# Altium schematic symbol library WE-FI.SchLib: 1 symbol
Pins are listed as number, name and electrical type; pins without a type are passive.

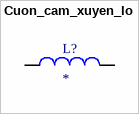
[diagram p0: symbol Cuon_cam_xuyen_lo]

## Cuon_cam_xuyen_lo
designator L?
Inductor 50125-33uH 8A; MF: {'manufacturer': u'W\xfcrth Elektronik'}; MP: 7447076; Package: None; Price: None; Value: *; Availability: Unavailable
footprint WE-FI_7447076
pins: 1, 2